# Altium footprint library SOP.PcbLib: 11 footprints
Each footprint in its own frame and in the unit in brackets; x right, y up, seen from the top. Pads: shape width x height; smd on the part's side, far side on the other; paste and mask are expansions set on the pad; w line width, h text height; cw(c..) or ccw(c..) is an arc to the next point about the centre after c.
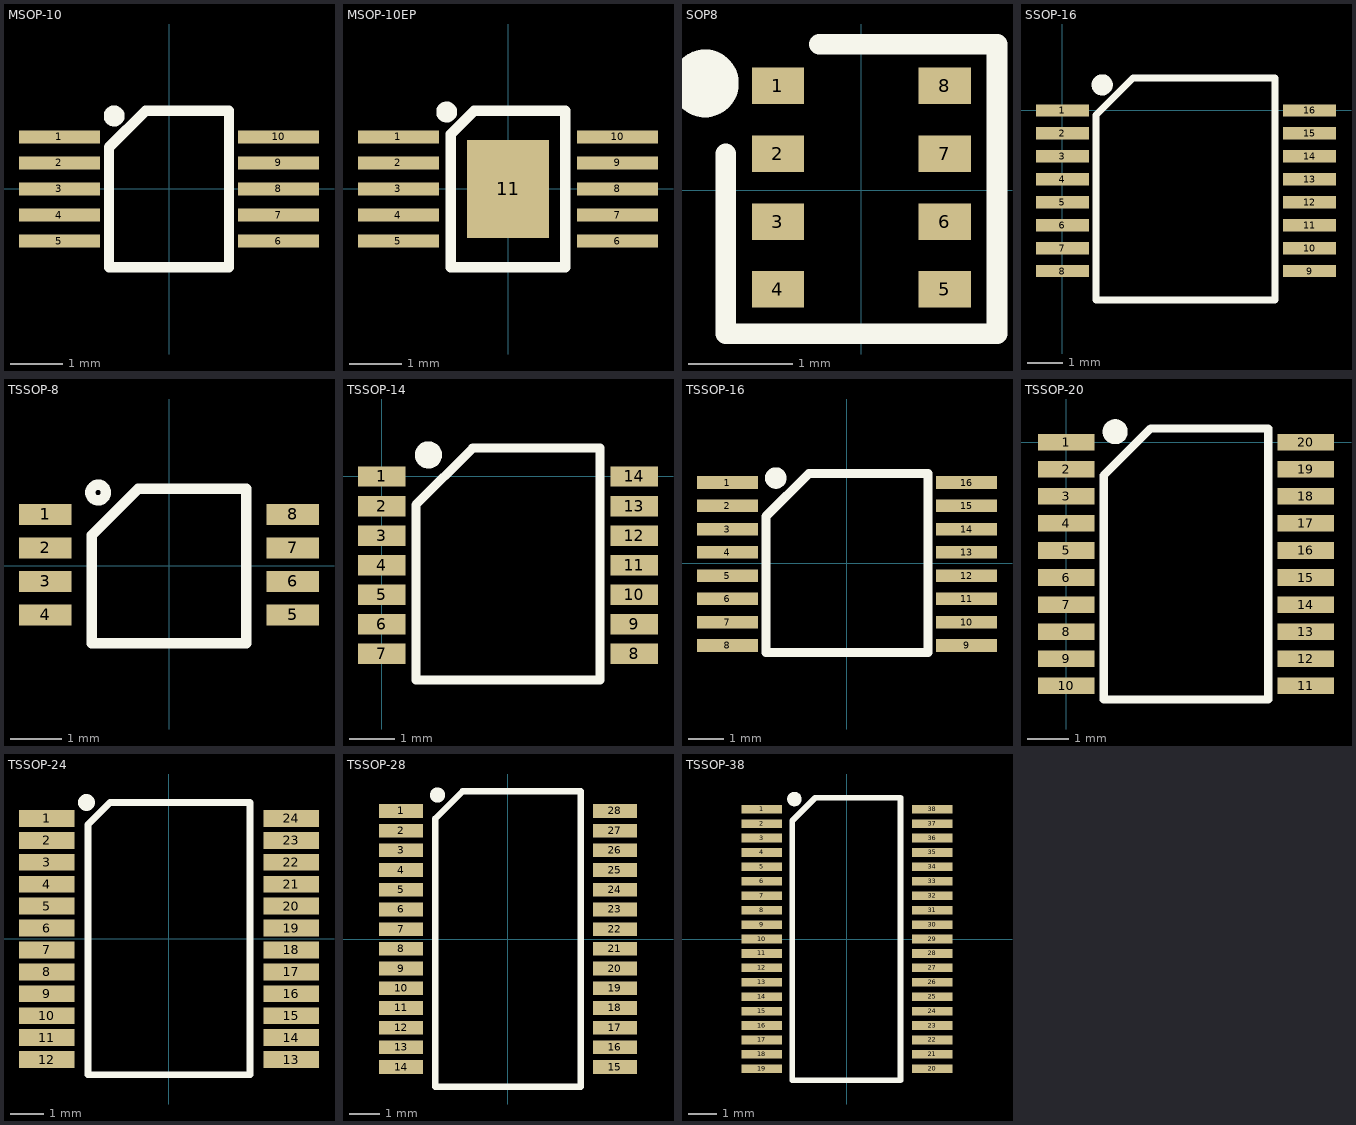
[diagram p0: the footprints below, top view; thin cyan lines are the x and y axes]

## MSOP-10 [mm]
pads (10):
  rect 1.55x0.25 smd: 1(-2.1,1) 2(-2.1,0.5) 3(-2.1,0) 4(-2.1,-0.5) 5(-2.1,-1) 6(2.1,-1) 7(2.1,-0.5) 8(2.1,0) 9(2.1,0.5) 10(2.1,1)
Top Overlay:
  circle w0.2: c-1.05,1.4 r0.1
  lines w0.2: -1.15,-1.5 1.15,-1.5 1.15,1.5 -0.45,1.5 -1.15,0.8 -1.15,-1.5
3D body "User Library-msop-10.step": height 1.15, standoff 0, extent -2.45,-1.5 2.45,1.5

## MSOP-10EP [mm]
pads (11):
  rect 1.55x0.25 smd: 1(-2.1,1) 2(-2.1,0.5) 3(-2.1,0) 4(-2.1,-0.5) 5(-2.1,-1) 6(2.1,-1) 7(2.1,-0.5) 8(2.1,0) 9(2.1,0.5) 10(2.1,1)
  rect 1.57x1.88 smd: 11(0,0)
Top Overlay:
  circle w0.2: c-1.175,1.475 r0.1
  lines w0.2: -1.1,-1.5 -1.1,1.05 -0.65,1.5 1.1,1.5 1.1,-1.5 -1.1,-1.5
3D body "User Library-msop-10.step": height 1.15, standoff 0, extent -2.45,-1.5 2.45,1.5

## SOP8 [mm]
pads (8):
  rect 0.5x0.35 smd: 1(-0.8,1) 2(-0.8,0.35) 3(-0.8,-0.3) 4(-0.8,-0.95) 5(0.8,-0.95) 6(0.8,-0.3) 7(0.8,0.35) 8(0.8,1)
Top Overlay:
  circle w0.5: c-1.5,1.025 r0.075
  lines w0.2: -1.3,0.35 -1.3,-1.375 1.3,-1.375 1.3,1.4 -0.4,1.4
3D body: height 0.13, standoff 0, extent -1,-1.225 1,1.275
3D body: height 1, standoff 0.13, extent -0.875,-1.1 0.875,1.15

## SSOP-16 [mm]
pads (16):
  rect 1.5x0.35 smd: 1(0,0) 2(0,-0.65) 3(0,-1.3) 4(0,-1.95) 5(0,-2.6) 6(0,-3.25) 7(0,-3.9) 8(0,-4.55) 9(7,-4.55) 10(7,-3.9) 11(7,-3.25) 12(7,-2.6) 13(7,-1.95) 14(7,-1.3) 15(7,-0.65) 16(7,0)
Top Overlay:
  circle w0.3: c1.125,0.725 r0.15
  lines w0.2: 3.225,0.925 2,0.925 0.95,-0.125 0.95,-5.375 6.025,-5.375 6.025,0.925 3.25,0.925
3D body "SW3dPS-ssop-16 pos.STEP": height 1.89, standoff -0.09, extent -0.45,-5.412 7.45,0.912

## TSSOP-8 [mm]
pads (8):
  rect 1.02x0.41 smd: 1(-2.4,1) 2(-2.4,0.35) 3(-2.4,-0.3) 4(-2.4,-0.95) 5(2.4,-0.95) 6(2.4,-0.3) 7(2.4,0.35) 8(2.4,1)
Top Overlay:
  circle w0.2: c-1.375,1.425 r0.152
  lines w0.2: -1.5,-1.5 1.5,-1.5 1.5,1.5 -0.6,1.5 -1.5,0.6 -1.5,-1.5
3D body "User Library-msop-8.STEP": height 1.15, standoff 0, extent -2.45,-1.5 2.45,1.5

## TSSOP-14 [mm]
pads (14):
  rect 1.05x0.45 smd: 1(0,0) 2(0,-0.65) 3(0,-1.3) 4(0,-1.95) 5(0,-2.6) 6(0,-3.25) 7(0,-3.9) 8(5.55,-3.9) 9(5.55,-3.25) 10(5.55,-2.6) 11(5.55,-1.95) 12(5.55,-1.3) 13(5.55,-0.65) 14(5.55,0)
Top Overlay:
  circle w0.3: c1.025,0.475 r0.15
  lines w0.2: 0.75,-4.475 0.75,-0.625 2,0.625 4.8,0.625 4.8,-4.475 0.75,-4.475
3D body "SW3dPS-TSSOP14-1.STEP": height 1.1, standoff 0, extent -0.425,-4.425 5.975,0.575

## TSSOP-16 [mm]
pads (16):
  rect 1.7x0.35 smd: 1(-3.325,2.25) 2(-3.325,1.6) 3(-3.325,0.95) 4(-3.325,0.3) 5(-3.325,-0.35) 6(-3.325,-1) 7(-3.325,-1.65) 8(-3.325,-2.3) 9(3.35,-2.3) 10(3.35,-1.65) 11(3.35,-1) 12(3.35,-0.35) 13(3.35,0.3) 14(3.35,0.95) 15(3.35,1.6) 16(3.35,2.25)
Top Overlay:
  circle w0.3: c-1.975,2.375 r0.15
  lines w0.254: -2.25,-2.5 -2.25,1.3 -1.05,2.5 2.275,2.5 2.275,-2.5 -2.25,-2.5
3D body "User Library-TSSOP-16-1.STEP": height 1.1, standoff 0, extent -3.2,-2.525 3.2,2.475

## TSSOP-20 [mm]
pads (20):
  rect 1.35x0.4 smd: 1(0,0) 2(0,-0.65) 3(0,-1.3) 4(0,-1.95) 5(0,-2.6) 6(0,-3.25) 7(0,-3.9) 8(0,-4.55) 9(0,-5.2) 10(0,-5.85) 11(5.75,-5.85) 12(5.75,-5.2) 13(5.75,-4.55) 14(5.75,-3.9) 15(5.75,-3.25) 16(5.75,-2.6) 17(5.75,-1.95) 18(5.75,-1.3) 19(5.75,-0.65) 20(5.75,0)
Top Overlay:
  circle w0.3: c1.175,0.25 r0.15
  lines w0.2: 3.037,0.325 4.85,0.325 4.85,-6.175 0.9,-6.175 0.9,-0.8 2.025,0.325 3.05,0.325
3D body "User Library-tssop-20-1.STEP": height 1.2, standoff 0, extent -0.425,-6.225 6.175,0.375

## TSSOP-24 [mm]
height 2.13
pads (24):
  rect 1.65x0.5 smd: 1(-3.625,3.575) 2(-3.625,2.925) 3(-3.625,2.275) 4(-3.625,1.625) 5(-3.625,0.975) 6(-3.625,0.325) 7(-3.625,-0.325) 8(-3.625,-0.975) 9(-3.625,-1.625) 10(-3.625,-2.275) 11(-3.625,-2.925) 12(-3.625,-3.575) 13(3.625,-3.575) 14(3.625,-2.925) 15(3.625,-2.275) 16(3.625,-1.625) 17(3.625,-0.975) 18(3.625,-0.325) 19(3.625,0.325) 20(3.625,0.975) 21(3.625,1.625) 22(3.625,2.275) 23(3.625,2.925) 24(3.625,3.575)
Top Overlay:
  circle w0.25: c-2.45,4.05 r0.125
  lines w0.2: -2.4,-4.025 -2.4,3.4 -1.75,4.05 2.4,4.05 2.4,-4.025 -2.4,-4.025
3D body "User Library-TSSOP-24 7_9x4_4.STEP": height 1.1, standoff 0, extent -3.2,-3.925 3.2,3.975

## TSSOP-28 [mm] "SOP, 28-Leads, Body 10,00x5,30mm, Pitch 0,65mm, IPC High Density"
height 2
pads (28):
  rect 1.45x0.45 smd: 1(-3.525,4.225) 2(-3.525,3.575) 3(-3.525,2.925) 4(-3.525,2.275) 5(-3.525,1.625) 6(-3.525,0.975) 7(-3.525,0.325) 8(-3.525,-0.325) 9(-3.525,-0.975) 10(-3.525,-1.625) 11(-3.525,-2.275) 12(-3.525,-2.925) 13(-3.525,-3.575) 14(-3.525,-4.225) 15(3.525,-4.225) 16(3.525,-3.575) 17(3.525,-2.925) 18(3.525,-2.275) 19(3.525,-1.625) 20(3.525,-0.975) 21(3.525,-0.325) 22(3.525,0.325) 23(3.525,0.975) 24(3.525,1.625) 25(3.525,2.275) 26(3.525,2.925) 27(3.525,3.575) 28(3.525,4.225)
Top Overlay:
  circle w0.25: c-2.325,4.75 r0.125
  lines w0.2: -2.4,-4.875 2.4,-4.875 2.4,4.875 -1.5,4.875 -2.4,3.975 -2.4,-4.875
3D body "User Library-TSSOP-28W.STEP": height 1.2, standoff 0, extent -4.05,-4.85 4.05,4.85

## TSSOP-38 [mm] "TSSOP, 38-Leads, Body 9,70x4,40mm, Pitch 0,50mm"
height 1.2
pads (38):
  rect 1.4x0.3 smd: 1(-2.95,4.5) 2(-2.95,4) 3(-2.95,3.5) 4(-2.95,3) 5(-2.95,2.5) 6(-2.95,2) 7(-2.95,1.5) 8(-2.95,1) 9(-2.95,0.5) 10(-2.95,0) 11(-2.95,-0.5) 12(-2.95,-1) 13(-2.95,-1.5) 14(-2.95,-2) 15(-2.95,-2.5) 16(-2.95,-3) 17(-2.95,-3.5) 18(-2.95,-4) 19(-2.95,-4.5) 20(2.95,-4.5) 21(2.95,-4) 22(2.95,-3.5) 23(2.95,-3) 24(2.95,-2.5) 25(2.95,-2) 26(2.95,-1.5) 27(2.95,-1) 28(2.95,-0.5) 29(2.95,0) 30(2.95,0.5) 31(2.95,1) 32(2.95,1.5) 33(2.95,2) 34(2.95,2.5) 35(2.95,3) 36(2.95,3.5) 37(2.95,4) 38(2.95,4.5)
Top Overlay:
  circle w0.25: c-1.825,4.85 r0.125
  lines w0.2: -1.9,-4.9 1.85,-4.9 1.85,4.9 -1.1,4.9 -1.9,4.1 -1.9,-4.9
3D body "SW3dPS-TSSOP-38.STEP": height 1.02, standoff 0.03, extent -3.2,-4.85 3.2,4.85